# Altium footprint library integrated.PcbLib: 18 footprints (part 1 of 2)
Each footprint in its own frame and in the unit in brackets; x right, y up, seen from the top. Pads: shape width x height; smd on the part's side, far side on the other; paste and mask are expansions set on the pad; w line width, h text height; cw(c..) or ccw(c..) is an arc to the next point about the centre after c.
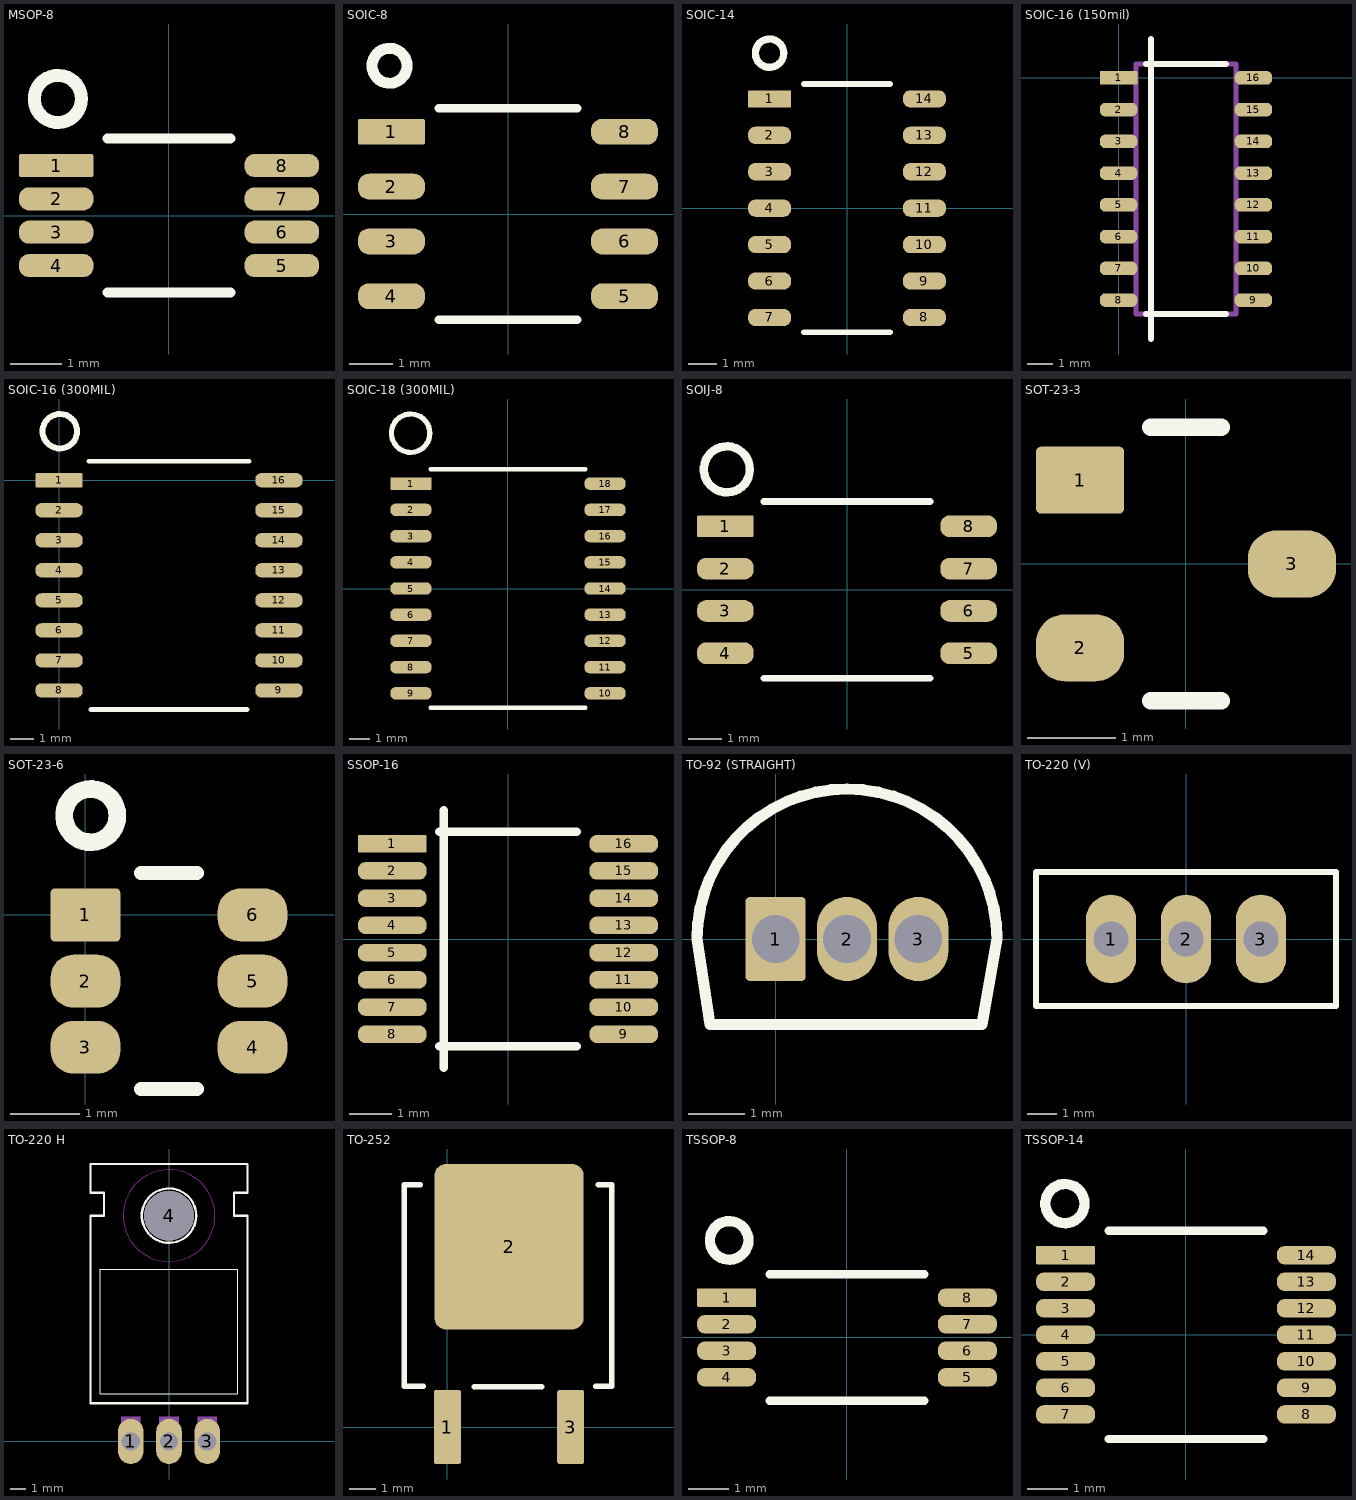
[diagram p0: the footprints below, top view; thin cyan lines are the x and y axes]

## MSOP-8 [mm]
pads (8):
  rrect15% 1.45x0.45 smd paste-0.05: 1(-2.2,0.975)
  rrect85% 1.45x0.45 smd paste-0.05: 2(-2.2,0.325) 3(-2.2,-0.325) 4(-2.2,-0.975) 5(2.2,-0.975) 6(2.2,-0.325) 7(2.2,0.325) 8(2.2,0.975)
Top Overlay:
  circle w0.254: c-2.167,2.275 r0.46
  lines w0.2: -1.2,-1.5 1.2,-1.5 ; -1.2,1.5 1.2,1.5
3D body: height 1.27, standoff 0, extent -1.2,-1.5 1.2,1.5

## SOIC-8 [mm]
pads (8):
  rrect15% 1.55x0.6 smd paste-0.05: 1(-2.7,1.905)
  rrect85% 1.55x0.6 smd paste-0.05: 2(-2.7,0.635) 3(-2.7,-0.635) 4(-2.7,-1.905) 5(2.7,-1.905) 6(2.7,-0.635) 7(2.7,0.635) 8(2.7,1.905)
Top Overlay:
  circle w0.254: c-2.744,3.435 r0.405
  lines w0.2: -1.6,-2.45 1.6,-2.45 ; -1.6,2.45 1.6,2.45
3D body: height 1.27, standoff 0, extent -1.6,-2.45 1.6,2.45

## SOIC-14 [mm]
pads (14):
  rrect15% 1.5x0.6 smd paste-0.05: 1(-2.7,3.81)
  rrect85% 1.5x0.6 smd paste-0.05: 2(-2.7,2.54) 3(-2.7,1.27) 4(-2.7,0) 5(-2.7,-1.27) 6(-2.7,-2.54) 7(-2.7,-3.81) 8(2.7,-3.81) 9(2.7,-2.54) 10(2.7,-1.27) 11(2.7,0) 12(2.7,1.27) 13(2.7,2.54) 14(2.7,3.81)
Top Overlay:
  circle w0.254: c-2.7,5.402 r0.494
  lines w0.2: -1.5,-4.325 1.5,-4.325 ; -1.5,4.325 1.5,4.325
3D body: height 1.75, standoff 0, extent -1.95,-4.325 1.95,4.325
3D body: height 1.27, standoff 0, extent 0,-4.325 0,-4.325

## SOIC-16 (150mil) [mm]
height 1.75
pads (16):
  rrect15% 1.5x0.55 smd paste-0.05: 1(0,0)
  rrect85% 1.5x0.55 smd paste-0.05: 2(0,-1.27) 3(0,-2.54) 4(0,-3.81) 5(0,-5.08) 6(0,-6.35) 7(0,-7.62) 8(0,-8.89) 9(5.4,-8.89) 10(5.4,-7.62) 11(5.4,-6.35) 12(5.4,-5.08) 13(5.4,-3.81) 14(5.4,-2.54) 15(5.4,-1.27) 16(5.4,0)
Top Overlay:
  lines w0.254: 1.1,-9.445 4.3,-9.445 ; 1.1,0.555 4.288,0.555 ; 1.3,-10.445 1.3,1.555
Dimensions:
  lines w0.2: 0.7,-9.445 4.7,-9.445 4.7,0.555 0.7,0.555 0.7,-9.445
3D body: height 1.27, standoff 0.1, extent 0.7,-9.445 4.7,0.555

## SOIC-16 (300MIL) [mm]
pads (16):
  rrect15% 2x0.6 smd paste-0.05: 1(0,0)
  rrect85% 2x0.6 smd paste-0.05: 2(0,-1.27) 3(0,-2.54) 4(0,-3.81) 5(0,-5.08) 6(0,-6.35) 7(0,-7.62) 8(0,-8.89) 9(9.3,-8.89) 10(9.3,-7.62) 11(9.3,-6.35) 12(9.3,-5.08) 13(9.3,-3.81) 14(9.3,-2.54) 15(9.3,-1.27) 16(9.3,0)
Top Overlay:
  circle w0.254: c0.032,2.073 r0.729
  lines w0.2: 1.25,0.805 8.05,0.805 ; 1.35,-9.695 7.95,-9.695
3D body: height 1.27, standoff 0, extent 1.15,-9.695 8.15,0.805

## SOIC-18 (300MIL) [mm]
height 1.75
pads (18):
  rrect15% 2x0.6 smd paste+0: 1(-4.7,5.08)
  rrect85% 2x0.6 smd paste+0: 2(-4.7,3.81) 3(-4.7,2.54) 4(-4.7,1.27) 6(-4.7,-1.27) 7(-4.7,-2.54) 8(-4.7,-3.81) 9(-4.7,-5.08) 10(4.7,-5.08) 11(4.7,-3.81) 12(4.7,-2.54) 13(4.7,-1.27) 14(4.7,0) 15(4.7,1.27) 16(4.7,2.54) 17(4.7,3.81) 18(4.7,5.08)
  rrect85% 2x0.6 smd: 5(-4.7,0)
Top Overlay:
  circle w0.254: c-4.718,7.523 r0.931
  lines w0.2: -3.75,-5.775 3.75,-5.775 ; -3.75,5.775 3.75,5.775
3D body: height 2.65, standoff 0, extent -3.75,-5.775 3.75,5.775

## SOIJ-8 [mm]
pads (8):
  rrect15% 1.7x0.65 smd paste-0.05: 1(-3.65,1.905)
  rrect85% 1.7x0.65 smd paste-0.05: 2(-3.65,0.635) 3(-3.65,-0.635) 4(-3.65,-1.905) 5(3.65,-1.905) 6(3.65,-0.635) 7(3.65,0.635) 8(3.65,1.905)
Top Overlay:
  circle w0.254: c-3.605,3.612 r0.69
  lines w0.2: -2.5,-2.65 2.5,-2.65 ; -2.5,2.65 2.5,2.65
3D body: height 2.03, standoff 0, extent -2.5,-2.65 2.5,2.65

## SOT-23-3 [mm]
pads (3):
  rrect15% 1x0.76 smd paste-0.05: 1(-1.2,0.95)
  rrect85% 1x0.76 smd paste-0.05: 2(-1.2,-0.95) 3(1.2,0)
Top Overlay:
  lines w0.2: -0.4,-1.55 0.4,-1.55 ; -0.4,1.55 0.4,1.55
3D body: height 1.45, standoff 0, extent -0.9,-1.55 0.9,1.55

## SOT-23-6 [mm]
pads (6):
  rrect15% 1x0.76 smd paste-0.05: 1(0,0)
  rrect85% 1x0.76 smd paste-0.05: 2(0,-0.95) 3(0,-1.9) 4(2.4,-1.9) 5(2.4,-0.95) 6(2.4,0)
Top Overlay:
  circle w0.254: c0.076,1.427 r0.383
  lines w0.2: 0.8,-2.5 1.6,-2.5 ; 0.8,0.6 1.6,0.6
3D body: height 1.45, standoff 0, extent 0.3,-2.5 2.1,0.6

## SSOP-16 [mm]
pads (16):
  rrect15% 1.6x0.41 smd paste-0.05: 1(-2.7,2.222)
  rrect85% 1.6x0.41 smd paste-0.05: 2(-2.7,1.587) 3(-2.7,0.953) 4(-2.7,0.318) 5(-2.7,-0.318) 6(-2.7,-0.953) 7(-2.7,-1.587) 8(-2.7,-2.222) 9(2.7,-2.222) 10(2.7,-1.587) 11(2.7,-0.953) 12(2.7,-0.318) 13(2.7,0.318) 14(2.7,0.953) 15(2.7,1.587) 16(2.7,2.222)
Top Overlay:
  lines w0.2: -1.6,-2.5 1.6,-2.5 ; -1.6,2.5 1.6,2.5 ; -1.5,-3 -1.5,3
3D body: height 1.27, standoff 0, extent -1.99,-2.25 1.99,2.25

## TO-92 (STRAIGHT) [mm]
pads (3):
  rrect15% 1.07x1.5 hole 0.85 paste-0.05: 1(0,0)
  oval 1.07x1.5 hole 0.85 paste-0.05: 2(1.27,0) 3(2.54,0)
Top Overlay:
  lines w0.2: -1.4,0 cw(c1.27,0) 3.94,0 3.67,-1.52 -1.166,-1.52 -1.4,0

## TO-220 (V) [mm]
pads (3):
  oval 1.7x3 hole 1.2: 1(-2.54,0) 2(0,0) 3(2.54,0)
Top Overlay:
  lines w0.2: -5.08,-2.275 -5.08,2.275 5.08,2.275 5.08,-2.275 -5.08,-2.275

## TO-220 H [mm]
pads (4):
  oval 1.7x3 hole 1.2: 1(-2.54,0) 2(0,0) 3(2.54,0)
  round 3.302 hole 3.302 unplated: 4(0,14.986)
Top Overlay:
  circle w0.152: c0,14.986 r1.803
  lines w0.051: -4.572,3.175 4.572,3.175 4.572,11.43 -4.572,11.43 -4.572,3.175
  lines w0.152: -5.207,2.54 5.207,2.54 5.207,14.986 4.318,14.986 4.318,16.51 5.207,16.51 5.207,18.415 -5.207,18.415 -5.207,16.51 -4.318,16.51 -4.318,14.986 -5.207,14.986 -5.207,2.54
Keep-Out Layer:
  circle w0: c0,14.986 r3.048
  circle w0: c0,14.986 r3.048
  circle w0: c0,14.986 r3.048
  circle w0: c0,14.986 r3.048
  circle w0: c0,14.986 r3.048
  circle w0: c0,14.986 r3.048
Mechanical 4:
  region: 1.905,1.651 3.175,1.651 3.175,0 1.905,0
  region: -0.635,1.651 0.635,1.651 0.635,0 -0.635,0
  region: -3.175,1.651 -1.905,1.651 -1.905,0 -3.175,0
  region: 1.905,1.651 3.175,1.651 3.175,0 1.905,0
  region: -0.635,1.651 0.635,1.651 0.635,0 -0.635,0
  region: -3.175,1.651 -1.905,1.651 -1.905,0 -3.175,0
3D body: height 4.7, standoff 0, extent -5.207,2.54 5.207,18.415

## TO-252 [mm]
pads (3):
  rrect15% 1x2.75 smd paste-0.05: 1(0,0) 3(4.58,0)
  rrect15% 5.55x6.15 smd paste-0.05: 2(2.29,6.7)
Top Overlay:
  lines w0.2: -1,9 -1.6,9 -1.6,1.51 -0.9,1.51 ; 1,1.5 3.5,1.5 ; 5.5,1.51 6.1,1.51 6.1,9 5.6,9
3D body: height 2.52, standoff 0, extent -1.6,1.5 6.1,9
3D body: height 1.27, standoff 0, extent -0.6,2.5 -0.6,2.5

## TSSOP-8 [mm]
pads (8):
  rrect15% 1.45x0.45 smd paste-0.05: 1(-2.95,0.975)
  rrect85% 1.45x0.45 smd paste-0.05: 2(-2.95,0.325) 3(-2.95,-0.325) 4(-2.95,-0.975) 5(2.95,-0.975) 6(2.95,-0.325) 7(2.95,0.325) 8(2.95,0.975)
Top Overlay:
  circle w0.254: c-2.887,2.379 r0.472
  lines w0.2: -1.9,-1.55 1.9,-1.55 ; -1.9,1.55 1.9,1.55
3D body: height 1.2, standoff 0, extent -1.9,-1.55 1.9,1.55

## TSSOP-14 [mm]
pads (14):
  rrect15% 1.45x0.45 smd paste-0.05: 1(-2.95,1.95)
  rrect85% 1.45x0.45 smd paste-0.05: 2(-2.95,1.3) 3(-2.95,0.65) 4(-2.95,0) 5(-2.95,-0.65) 6(-2.95,-1.3) 7(-2.95,-1.95) 8(2.95,-1.95) 9(2.95,-1.3) 10(2.95,-0.65) 11(2.95,0) 12(2.95,0.65) 13(2.95,1.3) 14(2.95,1.95)
Top Overlay:
  circle w0.254: c-2.966,3.214 r0.48
  lines w0.2: -1.9,-2.55 1.9,-2.55 ; -1.9,2.55 1.9,2.55
3D body: height 1.27, standoff 0, extent 0,0 0,0
3D body: height 1.27, standoff 0, extent 0,0 0,0
3D body: height 1.2, standoff 0, extent -2.25,-2.55 2.25,2.55